# Altium schematic symbol library DC2DC_Buck_Boost_Converter_SchLib.SchLib: 14 symbols
Pins are listed as number, name and electrical type; pins without a type are passive.

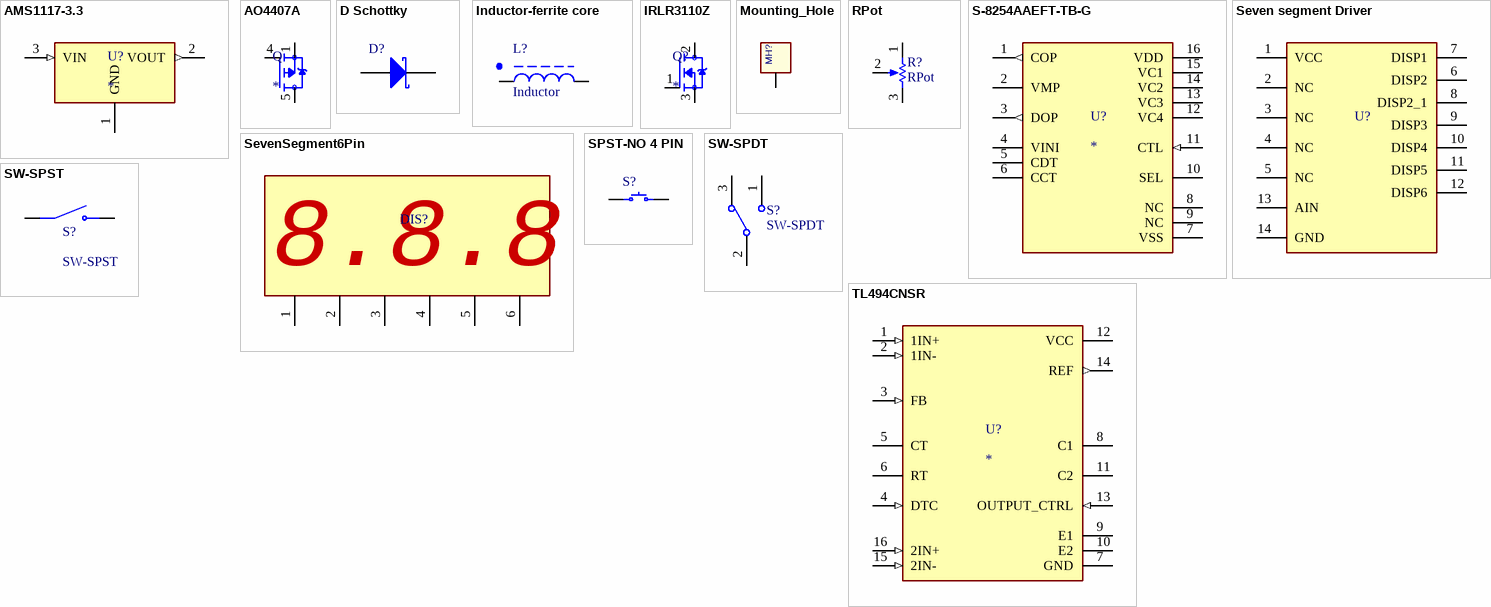
[diagram p0: symbols AMS1117-3.3 to TL494CNSR]

## AMS1117-3.3
designator U?
Sot223/Pkg 1-Amp 3.3-Volt Low Drop Out Voltage Regulatator; MF: Advanced Monolithic Systems; MP: AMS1117-3.3; Package: SOT-223 Seeed Technology; Value: *; Check_prices: https://www.snapeda.com/parts/AMS1117-3.3/Advanced+Monolithic+Systems/view-part/?ref=eda; Price: None; Availability: Not in stock; SnapEDA_Link: https://www.snapeda.com/parts/AMS1117-3.3/Advanced+Monolithic+Systems/view-part/?ref=snap
footprint SOT229P700X180-4N
pins: 1 GND (power), 2 VOUT (out), 3 VIN (in)

## AO4407A
designator Q
P-Channel 30V 12A _Ta_ 3.1W _Ta_ Surface Mount 8-SOIC; MP: AO4407A; MF: Alpha &; Value: *; SnapEDA_Link: https://www.snapeda.com/parts/AO4407A/Alpha%20%26%20Omega%20Semiconductor%20Inc./view-part/492696/?ref=snap; Availability: Unavailable; Price: None; Package: SOIC-8 Alpha &amp; Omega Semiconductor
footprint SOIC127P600X175-8N
pins: 1 S, 2 S, 3 S, 4 G, 5 D, 6 D, 7 D, 8 D

## D Schottky
designator D?
Schottky Diode; MP: *
footprint DIO_SS34
pins: 1 A, 2 K

## Inductor-ferrite core
designator L?, comment Inductor
Manufacturer: *; Manufacturer part number: *; JLCPCB part number: *
footprint toroid-16x8 (THT Leaded Toroidal Storage Choke, body 17x11mm)
pins: 1, 2

## IRLR3110Z
designator Q?
IRLR3110Z N-channel Power MOSFET; MP: IRFZ44N; MF: Infineon Technologies; Check_prices: https://www.snapeda.com/parts/IRFZ44N/Infineon+Technologies/view-part/?ref=eda; Package: TO-220-3 Infineon; Value: *; Availability: In Stock; Purchase-URL: https://pricing.snapeda.com/search/part/IRFZ44N/?ref=eda; SnapEDA_Link: https://www.snapeda.com/parts/IRFZ44N/Infineon+Technologies/view-part/?ref=snap; Price: None
footprint TO252
pins: 1 G, 2 D, 3 S

## Mounting_Hole
designator MH?, comment TP_USB  (value not drawn)  (no BOM)
M3 Hole; Shop: Scion; Discription: PCB Stand Screw M3 20mm; Value: PCB Stand Screw M3 20mm; Price: 30
footprint MECHANICAL_M3
footprint MECHANICAL_M3_NON_PLATED
pins: 1

## RPot
designator R?
Potentiometer
footprint TRIM_TC33X-2-201G
pins: 1 TOP, 2 TAP, 3 BOT
1 alternate drawing of the same symbol

## S-8254AAEFT-TB-G
designator U?
Battery Battery Protection IC Lithium Ion/Polymer 16-TSSOP; MP: S-8254AAEFT-TB-G; Package: None; Price: None; Value: *; Availability: Unavailable
footprint SOP65P640X110-16N
pins: 1 COP (out), 2 VMP, 3 DOP (out), 4 VINI, 5 CDT, 6 CCT, 7 VSS (power), 8 NC, 9 NC, 10 SEL, 11 CTL (in), 12 VC4 (power), 13 VC3 (power), 14 VC2 (power), 15 VC1 (power), 16 VDD (power)

## Seven segment Driver
designator U?
ADC/MUX/Binary2BCD/BCDto7Segment; MP: S-8254AAEFT-TB-G; Package: None; Price: None; Value: *; Availability: Unavailable
footprint SOIC127P600X175-14N
pins: 1 VCC (power), 2 NC, 3 NC, 4 NC, 5 NC, 6 DISP2 (power), 7 DISP1 (power), 8 DISP2_1 (power), 9 DISP3, 10 DISP4, 11 DISP5, 12 DISP6, 13 AIN, 14 GND (power)

## SevenSegment6Pin
designator DIS?, comment 6pin 3 digit seven segment display module  (value not drawn)
footprint 7Segment-0.28inch
pins: 1, 2, 3, 4, 5, 6
text: 8.8.8

## SPST-NO 4 PIN
designator S?
Switch Push button
footprint 4312560387x6 (6x6mm right angle Tact Switch with ground terminal, THT version)
pins: 1, 2

## SW-SPDT
designator S?
SPDT switch
footprint SS12D00G3
pins: 1, 2, 3

## SW-SPST
designator S?
footprint SW_TL2230EEF100
pins: 2 COM, 3 NO

## TL494CNSR
designator U?
40V, 0.2A 300KHz PWM ì»¨íŠ¸ë¡¤ëŸ¬; MP: TL494CNSR; MF: Texas Instruments; Package: SOP-16 Texas Instruments; Digi-Key_Part_Number: 296-10191-2-ND; Check_prices: https://www.snapeda.com/parts/TL494CNSR/Texas+Instruments/view-part/?ref=eda; Purchase-URL: https://pricing.snapeda.com/search/part/TL494CNSR/?ref=eda; SnapEDA_Link: https://www.snapeda.com/parts/TL494CNSR/Texas+Instruments/view-part/?ref=snap; Value: *
footprint SOIC127P780X200-16N
pins: 1 1IN+ (in), 2 1IN- (in), 3 FB (in), 4 DTC (in), 5 CT, 6 RT, 7 GND (power), 8 C1 (oc), 9 E1, 10 E2, 11 C2 (oc), 12 VCC (power), 13 OUTPUT_CTRL (in), 14 REF (out), 15 2IN- (in), 16 2IN+ (in)